# Altium schematic symbol library Magjack_Connector.SchLib: 1 symbol
Pins are listed as number, name and electrical type; pins without a type are passive.

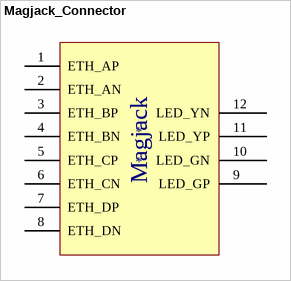
[diagram p0: symbol Magjack_Connector]

## Magjack_Connector
designator *
pins: 1 ETH_AP, 2 ETH_AN, 3 ETH_BP, 4 ETH_BN, 5 ETH_CP, 6 ETH_CN, 7 ETH_DP, 8 ETH_DN, 9 LED_GP, 10 LED_GN, 11 LED_YP, 12 LED_YN
text: Magjack